# Altium footprint library 传感元件.PcbLib: 17 footprints (part 1 of 2)
Each footprint in its own frame and in the unit in brackets; x right, y up, seen from the top. Pads: shape width x height; smd on the part's side, far side on the other; paste and mask are expansions set on the pad; w line width, h text height; cw(c..) or ccw(c..) is an arc to the next point about the centre after c.
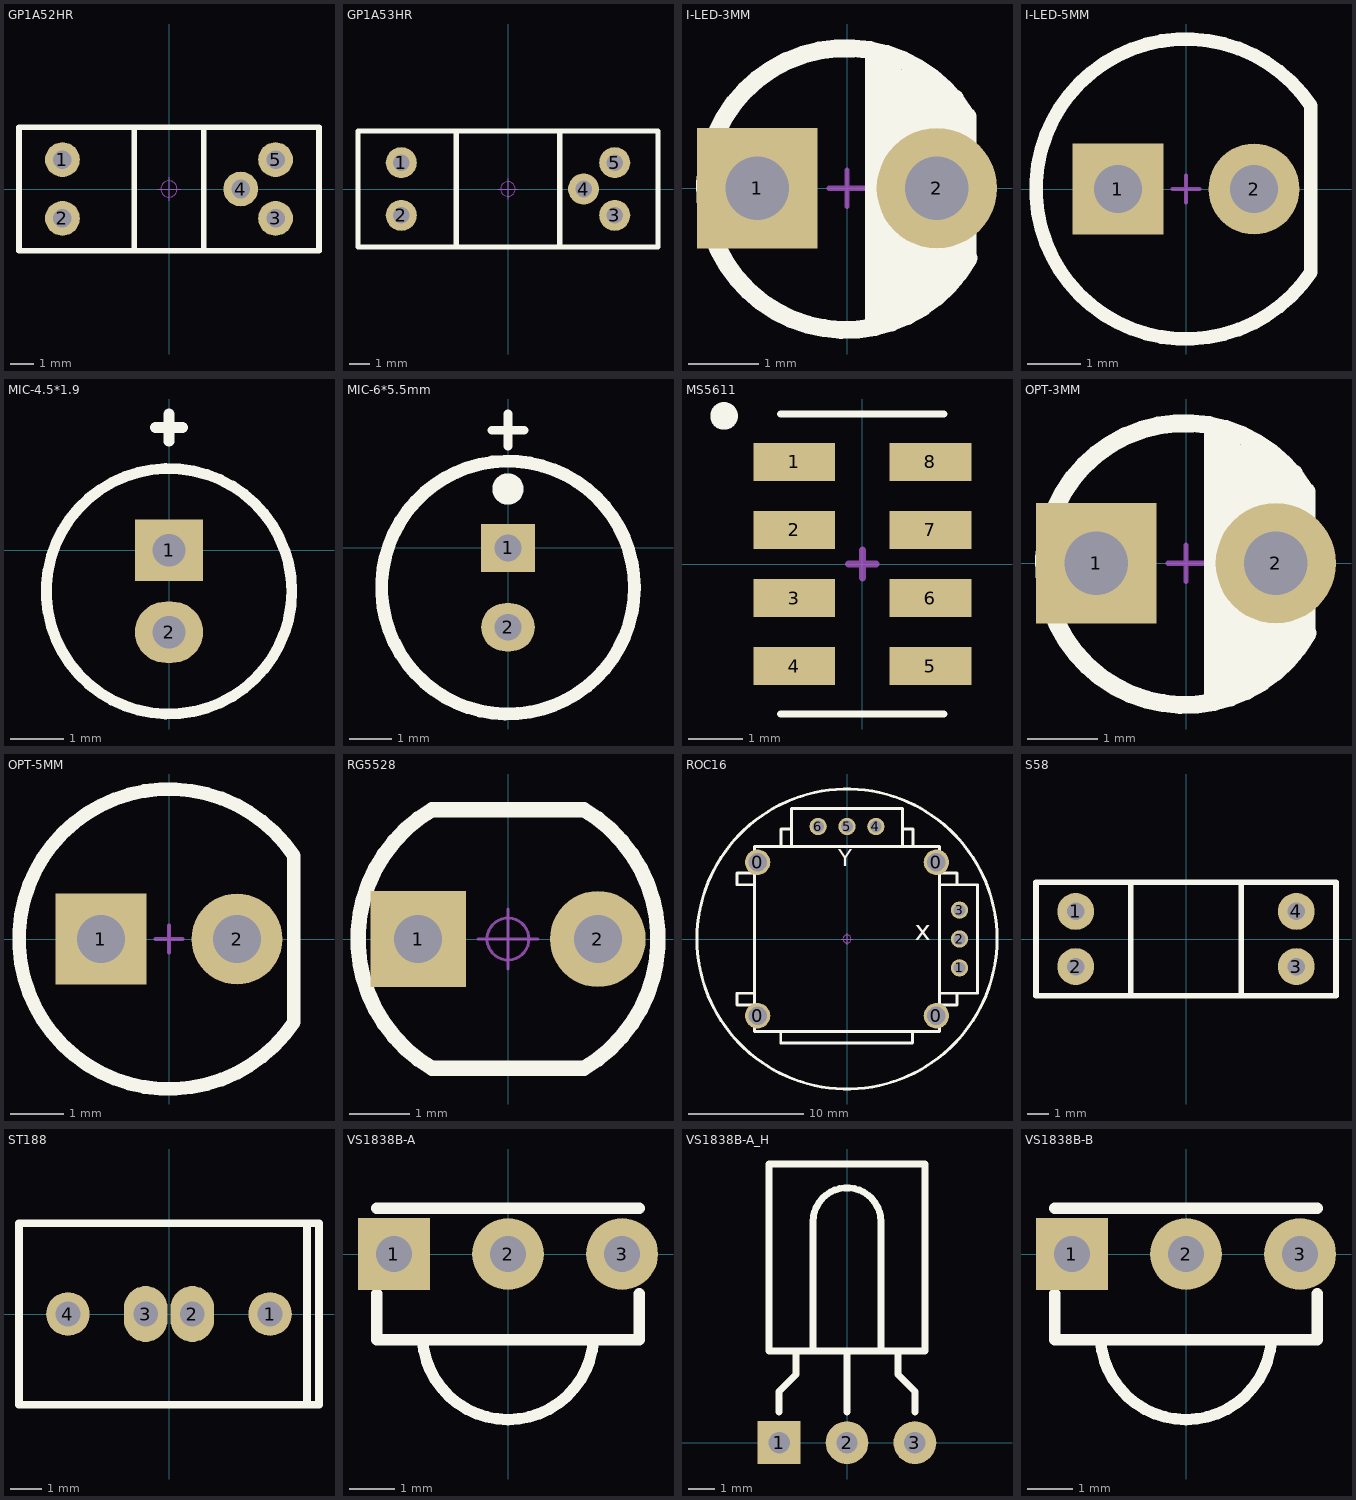
[diagram p0: the footprints below, top view; thin cyan lines are the x and y axes]

## GP1A52HR [mm] "长: 12.5mm,宽:5mm,高:10mm,槽宽:3mm"
pads (5):
  round 1.5 hole 0.8: 1(-4.6,1.27) 2(-4.6,-1.27) 3(4.6,-1.27) 4(3.1,0) 5(4.6,1.27)
Top Overlay:
  lines w0.25: -1.5,-2.667 -1.5,2.667 ; 1.5,-2.667 1.5,2.667 ; -6.477,-2.667 6.477,-2.667 6.477,2.667 -6.477,2.667 -6.477,-2.667
Mechanical 15:
  circle w0.05: c0,0 r0.35
  lines w0.05: -0.5,0 0.5,0 ; 0,-0.5 0,0.5
3D body: height 10.05, standoff -3.15, extent -6.25,-2.5 6.25,2.5

## GP1A53HR [mm] "长: 14mm,宽:5.2mm,高:10mm,槽宽:5mm"
pads (5):
  round 1.5 hole 0.8: 1(-5.15,1.27) 2(-5.15,-1.27) 3(5.15,-1.27) 4(3.65,0) 5(5.15,1.27)
Top Overlay:
  lines w0.25: -2.5,-2.667 -2.5,2.667 ; 2.5,-2.667 2.5,2.667 ; -7.239,-2.794 -7.239,2.794 7.239,2.794 7.239,-2.794 -7.239,-2.794
Mechanical 15:
  circle w0.05: c0,0 r0.35
  lines w0.05: -0.5,0 0.5,0 ; 0,-0.5 0,0.5
3D body: height 10.05, standoff -3.15, extent -7,-2.6 7,2.6

## I-LED-3MM [mm] "3mm红外发射管"
height 6.35
pads (2):
  rect 1.7x1.7 hole 0.9: 1(-1.27,0)
  round 1.7 hole 0.9: 2(1.27,0)
Top Overlay:
  lines w0.254: 0.381,-1.905 0.381,1.905 ; 0.635,-1.778 0.635,1.778 ; 1.016,-1.651 1.016,1.524 ; 1.524,1.27 1.524,-1.27 1.27,-1.524 1.27,1.397 1.143,1.524 1.016,1.524 ; 1.685,1.025 ccw(c-0.016,-0.012) 1.72,-0.987 ; 1.702,-0.965 1.702,1.016 ; 0.889,1.651 0.889,-1.778 0.889,1.651 ; 0.889,1.651 1.016,1.524
Mechanical 15:
  lines w0.076: -0.254,0 0.254,0 ; 0,-0.254 0,0.254
3D body: height 5.55, standoff 0.05, extent -1.95,-1.95 1.638,1.95
3D body: height 2.56, standoff -3.45, extent -1.623,-0.838 1.618,0.838

## I-LED-5MM [mm] "5mm红外发射管"
height 10.16
pads (2):
  rect 1.7x1.7 hole 0.9: 1(-1.27,0)
  round 1.7 hole 0.9: 2(1.27,0)
Top Overlay:
  lines w0.254: 2.33,-1.553 cw(c0,0) 2.33,1.553 2.33,-1.553
Mechanical 15:
  lines w0.076: -0.254,0 0.254,0 ; 0,-0.254 0,0.254
3D body: height 4.5, standoff -3.45, extent -1.983,-0.795 2.076,0.805
3D body: height 8.75, standoff 0.05, extent -2.85,-2.85 2.454,2.85

## MIC-4.5*1.9 [mil] "咪咪头"
pads (2):
  rect 50x45 hole 24: 1(0,0)
  oval 50x45 hole 24: 2(0,-60)
Top Overlay:
  circle w8: c0,-30 r90
  lines w8: -10,90 10,90 ; 0,80 0,100
3D body: height 75.38, standoff -110.24, extent -88.81,-118.58 88,58.58

## MIC-6*5.5mm [mil] "咪咪头"
pads (2):
  rect 50x45 hole 25: 1(0,0)
  oval 50x45 hole 25: 2(0,-74)
Top Overlay:
  circle w12: c0,-37 r118
  circle w15: c0,55 r7.07
  lines w8: -15,110 15,110 ; 0,95 0,125
3D body: height 197.64, standoff -118.11, extent -117.78,-157.1 117.78,79.12

## MS5611 [mm] "气压传感芯片"
pads (8):
  rect 1.5x0.7 smd: 1(-1.25,1.875) 2(-1.25,0.625) 3(-1.25,-0.625) 4(-1.25,-1.875) 5(1.25,-1.875) 6(1.25,-0.625) 7(1.25,0.625) 8(1.25,1.875)
Top Overlay:
  circle w0.454: c-2.54,2.718 r0.025
  lines w0.127: -1.5,-2.754 1.5,-2.754 ; -1.5,2.754 1.5,2.754
Mechanical 15:
  lines w0.127: -0.254,0 0.254,0 ; 0,-0.254 0,0.254
3D body: height 1, standoff -0.01, extent -1.5,-2.5 1.501,2.5

## OPT-3MM [mm] "3mm红外接收管"
height 6.35
pads (2):
  rect 1.7x1.7 hole 0.9: 1(-1.27,0)
  round 1.7 hole 0.9: 2(1.27,0)
Top Overlay:
  lines w0.254: 0.381,-1.905 0.381,1.905 ; 0.635,-1.778 0.635,1.778 ; 1.016,-1.651 1.016,1.524 ; 1.524,1.27 1.524,-1.27 1.27,-1.524 1.27,1.397 1.143,1.524 1.016,1.524 ; 1.685,1.025 ccw(c-0.016,-0.012) 1.72,-0.987 ; 1.702,-0.965 1.702,1.016 ; 0.889,1.651 0.889,-1.778 0.889,1.651 ; 0.889,1.651 1.016,1.524
Mechanical 15:
  lines w0.076: -0.254,0 0.254,0 ; 0,-0.254 0,0.254
3D body: height 2.56, standoff -3.45, extent -1.623,-0.838 1.618,0.838
3D body: height 5.55, standoff 0.05, extent -1.95,-1.95 1.638,1.95

## OPT-5MM [mm] "5mm红外接收管"
height 10.16
pads (2):
  rect 1.7x1.7 hole 0.9: 1(-1.27,0)
  round 1.7 hole 0.9: 2(1.27,0)
Top Overlay:
  lines w0.254: 2.33,-1.553 cw(c0,0) 2.33,1.553 2.33,-1.553
Mechanical 15:
  lines w0.076: -0.254,0 0.254,0 ; 0,-0.254 0,0.254
3D body: height 8.75, standoff 0.05, extent -2.85,-2.85 2.454,2.85
3D body: height 4.5, standoff -3.45, extent -1.983,-0.795 2.076,0.805

## RG5528 [mm] "光敏电阻 脚距：3mm"
pads (2):
  rect 1.6x1.6 hole 0.8: 1(-1.5,0)
  round 1.6 hole 0.8: 2(1.5,0)
Top Overlay:
  lines w0.254: -1.27,-2.159 cw(c0,0) -1.27,2.159 1.27,2.159 cw(c0,0) 1.27,-2.159 -1.27,-2.159
Mechanical 15:
  circle w0.05: c0,0 r0.35
  lines w0.05: -0.5,0 0.5,0 ; 0,-0.5 0,0.5
3D body: height 1.9, standoff -3.45, extent -2.5,-2.15 2.5,2.15

## ROC16 [mm] "摇杆电位器，长16mm，宽16mm，高12.2mm"
pads (10):
  round 2.2 hole 1.6: 0(-7.75,-6.65) 0(-7.75,6.65) 0(7.75,-6.65) 0(7.75,6.65)
  round 1.5 hole 1: 1(9.75,-2.5) 2(9.75,0) 3(9.75,2.5) 4(2.5,9.75) 5(0,9.75) 6(-2.5,9.75)
Top Overlay:
  circle w0.254: c0,0 r13
  lines w0.254: -8,-5.715 -9.525,-5.715 -9.525,-4.699 -8,-4.699 ; -8,4.699 -9.525,4.699 -9.525,5.715 -8,5.715 ; -5.741,-8.028 -5.741,-9.017 5.689,-9.017 5.689,-8.027 5.663,-8.053 ; -5.715,8 -5.715,9.525 -4.8,9.525 ; -4.8,8 -4.8,11.3 4.8,11.3 4.8,8 ; 4.8,9.144 4.8,8 ; 4.8,9.525 5.715,9.525 5.715,8 ; 4.826,8.026 4.8,8 ; 8,-5.715 9.525,-5.715 9.525,-4.699 ; 8,-4.699 9.525,-4.699 ; 8,4.699 9.525,4.699 ; 8,5.715 9.525,5.715 9.525,4.699 ; 9.525,-4.699 11.3,-4.699 11.301,-2.425 ; 9.525,4.699 11.303,4.699 11.302,2.324 11.301,-2.425 ; 11.301,-2.425 11.301,-2.425 ; -8,-8 8,-8 8,8 -8,8 -8,-8
  text "x" at 5.867,-0.737 h3
  text "Y" at -0.762,5.842 h2.5
Mechanical 15:
  circle w0.05: c0,0 r0.35
  lines w0.05: -0.5,0 0.5,0 ; 0,-0.5 0,0.5
3D body: height 29.36, standoff -3.65, extent -12.5,-12.5 12.5,12.5

## S58 [mm] "对射型光耦"
pads (4):
  round 1.7 hole 0.8: 1(-5.08,1.27) 2(-5.08,-1.27) 3(5.08,-1.27) 4(5.08,1.27)
Top Overlay:
  lines w0.254: -2.54,-2.616 -2.54,2.616 ; 2.54,-2.54 2.54,2.54 ; -6.909,-2.616 6.909,-2.616 6.909,2.616 -5.08,2.616 -6.909,2.616 -6.909,-2.616
3D body: height 10, standoff -3.5, extent -6.9,-2.6 6.9,2.6

## ST188 [mm] "反射型光耦"
pads (4):
  round 1.4 hole 0.8: 1(3.25,0) 4(-3.25,0)
  oval 1.4x1.8 hole 0.8: 2(0.75,0) 3(-0.75,0)
Top Overlay:
  lines w0.254: 4.445,-2.921 4.445,2.921 ; -4.826,-2.921 -4.826,2.921 4.826,2.921 4.826,-2.921 -4.826,-2.921
3D body: height 8.2, standoff -3.5, extent -4.7,-2.75 4.7,2.75

## VS1838B-A [mm] "一体红外接收头"
pads (3):
  rect 1.6x1.6 hole 0.8: 1(-2.54,0)
  round 1.6 hole 0.8: 2(0,0) 3(2.54,0)
Top Overlay:
  lines w0.254: -2.921,-0.889 -2.921,-1.905 2.921,-1.905 2.921,-0.889 ; -2.921,1.016 2.921,1.016 ; -1.905,-1.905 ccw(c0,-1.778) 1.905,-1.905
3D body: height 8.3, standoff -3.5, extent -2.84,-3.6 2.84,0.8

## VS1838B-A_H [mm] "卧式一体红外接收头"
pads (3):
  rect 1.6x1.6 hole 0.8: 1(-2.54,0)
  round 1.6 hole 0.8: 2(0,0) 3(2.54,0)
Top Overlay:
  lines w0.254: -2.54,1.143 -2.54,1.905 -1.905,2.54 -1.905,3.429 ; -1.27,3.429 -1.27,8.255 cw(c0,8.255) 1.27,8.255 1.27,3.429 ; 0,1.143 0,3.429 ; 1.905,3.429 1.905,2.54 2.54,1.905 2.54,1.143 ; -2.921,3.429 -2.921,10.414 2.921,10.414 2.921,3.429 -2.921,3.429
3D body: height 4.4, standoff -3.5, extent -2.84,-0.2 2.84,10.3

## VS1838B-B [mm] "一体红外接收头"
pads (3):
  rect 1.6x1.6 hole 0.8: 1(-2.54,0)
  round 1.6 hole 0.8: 2(0,0) 3(2.54,0)
Top Overlay:
  lines w0.254: -2.921,-0.889 -2.921,-1.905 2.921,-1.905 2.921,-0.889 ; -2.921,1.016 2.921,1.016 ; -1.905,-1.905 ccw(c0,-1.778) 1.905,-1.905
3D body: height 8.65, standoff -3.5, extent -3.4,-3.95 3.4,1.15